# EAGLE library part MAX1947 (library gecko)
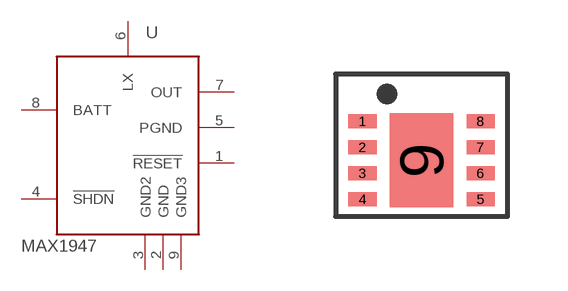
[diagram p3: symbol with the pads of TDFN8; footprint TDFN8]

Designator prefix U

## MAX1947  [TDFN8]
1  !RESET
2  GND
3  GND2
4  !SHDN
5  PGND
6  LX
7  OUT
8  BATT
9  GND3

## Footprint TDFN8 (pad centres in mm)
smd 0.7 x 0.35: 1 -1.475,0.975; 2 -1.475,0.325; 3 -1.475,-0.325; 4 -1.475,-0.975; 5 1.475,-0.975; 6 1.475,-0.325; 7 1.475,0.325; 8 1.475,0.975
smd 1.58 x 2.35: 9 0,0